# EAGLE library part L80-M39 (library Yobi)
GPS Receiver 1575.42MHz 3.3V 12-Pin
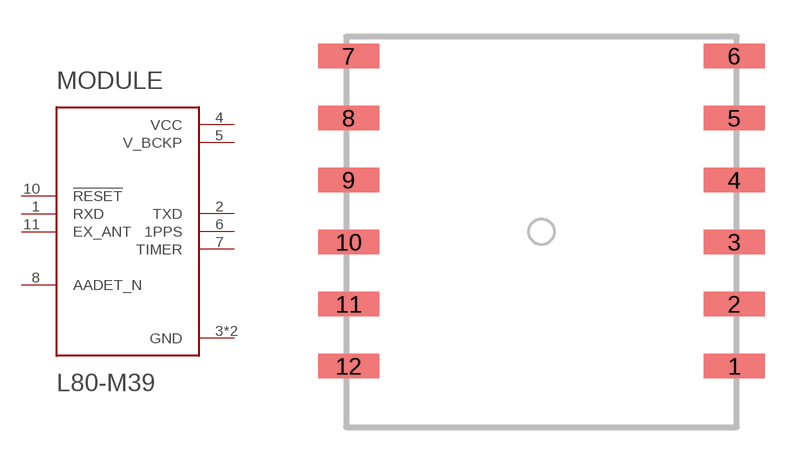
[diagram p1: symbol with the pads of QUECTEL_L80-M39; footprint QUECTEL_L80-M39]

Designator prefix MODULE

## L80-M39  [QUECTEL_L80-M39]
1  RXD  in
2  TXD  out
3  GND  pas
4  VCC  pwr
5  V_BCKP  pwr
6  1PPS  out
7  TIMER  out
8  AADET_N
10  !RESET  in
11  EX_ANT  in
12  GND  pas

## Footprint QUECTEL_L80-M39 (pad centres in mm)
smd 2.5 x 1: 1 7.9,-5.5; 2 7.9,-2.96; 3 7.9,-0.42; 4 7.9,2.12; 5 7.9,4.66; 6 7.9,7.2; 7 -7.9,7.2; 8 -7.9,4.66; 9 -7.9,2.12; 10 -7.9,-0.42; 11 -7.9,-2.96; 12 -7.9,-5.5